# Altium schematic symbol library MOTION_POSITION-ADXL345BCCZ-RL_14P-5.0X3.0MM_.SchLib: 1 symbol
Pins are listed as number, name and electrical type; pins without a type are passive.

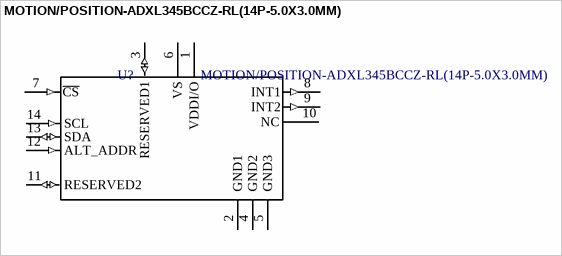
[diagram p0: symbol MOTION/POSITION-ADXL345BCCZ-RL(14P-5.0X3.0MM)]

## MOTION/POSITION-ADXL345BCCZ-RL(14P-5.0X3.0MM)
designator U?
Accelerometer Triple Â±2/Â±4/Â±8/Â±16g 2V to 3.6V 14-Pin LGA T/R; MF: Analog Devices; SnapEDA_Link: https://www.snapeda.com/parts/ADXL345BCCZ-RL/Analog%20Devices%20Inc./view-part/?ref=snap; Availability: Unavailable; MP: ADXL345BCCZ-RL; Price: None; Package: LGA-14 Analog Devices; Value: *
footprint LGA14-0.8-5.0X3.0MM
pins: 1 VDDI/O (power), 2 GND1 (power), 3 RESERVED1 (io), 4 GND2 (power), 5 GND3 (power), 6 VS (power), 7 ~{CS} (in), 8 INT1 (out), 9 INT2 (out), 10 NC, 11 RESERVED2 (io), 12 ALT_ADDR (in), 13 SDA (io), 14 SCL (in)